# EAGLE library part FSA642 (library IC & Transistor)
FSA642 - Low-Power, Three-Port, High-Speed MIPI Switch.
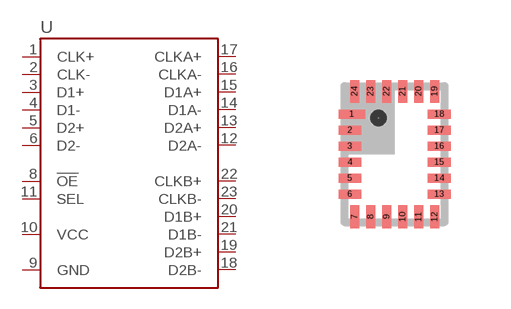
[diagram p38: symbol with the pads of UMLP-24; footprint UMLP-24]

Designator prefix U

## FSA642 (CYTRON-PC: S-IC-FSA642-UMLP24; DESC: S High Speed MIPI Switch FSA642 UMLP24; MF: Fairchild Semiconductor; MPN: FSA642)  [UMLP-24]
1  CLK+
2  CLK-
3  D1+
4  D1-
5  D2+
6  D2-
8  !OE!
9  GND
10  VCC
11  SEL
12  D2A-
13  D2A+
14  D1A-
15  D1A+
16  CLKA-
17  CLKA+
18  D2B-
19  D2B+
20  D1B+
21  D1B-
22  CLKB+
23  CLKB-

## Footprint UMLP-24 (pad centres in mm)
FSA642 Size: 2.8mm x 3.7mm Reference: https://www.fairchildsemi.com/datasheets/FS/FSA642.pdf Created by: Idris
smd 0.663 x 0.225: 1 -1.069,1
smd 0.563 x 0.225: 2 -1.119,0.6; 3 -1.119,0.2; 4 -1.119,-0.2; 5 -1.119,-0.6; 6 -1.119,-1; 13 1.119,-1; 14 1.119,-0.6; 15 1.119,-0.2; 16 1.119,0.2; 17 1.119,0.6; 18 1.119,1
smd 0.225 x 0.563: 7 -1,-1.569; 8 -0.6,-1.569; 9 -0.2,-1.569; 10 0.2,-1.569; 11 0.6,-1.569; 12 1,-1.569; 19 1,1.569; 20 0.6,1.569; 21 0.2,1.569; 22 -0.2,1.569; 23 -0.6,1.569; 24 -1,1.569